# Altium integrated library ST EEPROM.IntLib: 1 symbol
Pins are listed as number, name and electrical type; pins without a type are passive.

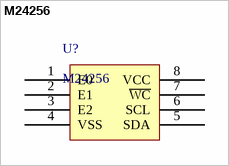
[diagram p0: symbol M24256]

## M24256
designator U?
256 Kbit I2C EEPROM
footprint SOIC8 (SOIC, 8-Leads, Body 4,90x3,90mm, Pitch 1,27mm, IPC Medium Density)
pins: 1 E0, 2 E1, 3 E2, 4 VSS, 5 SDA, 6 SCL, 7 ~{WC}, 8 VCC